# Altium footprint library Mechanical_Connectors_Terminal_Pluggable_Screw_5.08_Board_TH.PcbLib: 6 footprints
Each footprint in its own frame and in the unit in brackets; x right, y up, seen from the top. Pads: shape width x height; smd on the part's side, far side on the other; paste and mask are expansions set on the pad; w line width, h text height; cw(c..) or ccw(c..) is an arc to the next point about the centre after c.
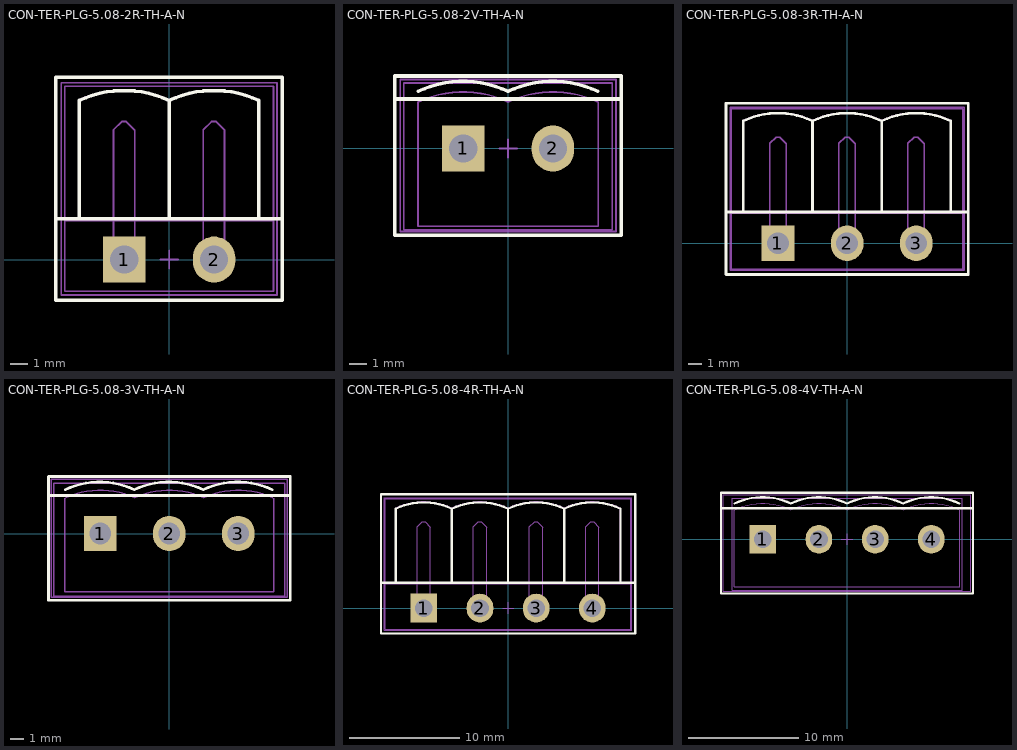
[diagram p0: the footprints below, top view; thin cyan lines are the x and y axes]

## CON-TER-PLG-5.08-2R-TH-A-N [mm]
height 8.3
pads (2):
  rect 2.4x2.6 hole 1.6: 1(-2.54,0)
  oval 2.4x2.6 hole 1.6: 2(2.54,0)
Top Overlay:
  lines w0.2: -6.4,2.3 6.4,2.3 ; -5.085,2.3 -5.085,9 ; -5.056,9.005 cw(c-2.545,3.62) -0.034,9.005 ; -0.005,2.3 -0.005,9 ; 0,2.3 0,9 ; 0.024,9.005 cw(c2.535,3.62) 5.046,9.005 ; 5.08,2.3 5.08,9 ; -6.4,-2.3 -6.4,10.3 6.4,10.3 6.4,-2.3 -6.4,-2.3
Top Package:
  circle w0.1: c-2.54,0 r0.6
  circle w0.1: c2.54,0 r0.6
  lines w0.1: -5.9,2.2 5.9,2.2 ; -5.09,2.23 -5.09,9.03 cw(c-2.55,3.659) -0.01,9.03 ; -3.145,0 -3.145,7.34 -2.685,7.8 -2.425,7.8 -1.945,7.32 -1.945,0 ; -0.01,2.23 -0.01,9.03 ; -0.005,2.23 -0.005,9.03 ; 1.935,0 1.935,7.34 2.395,7.8 2.655,7.8 3.135,7.32 3.135,0 ; 5.07,9.03 ccw(c2.53,3.659) -0.01,9.03 ; 5.075,2.23 5.075,9.03 ; -5.9,-1.8 5.9,-1.8 5.9,9.8 -5.9,9.8 -5.9,-1.8
Top Comment:
  text ".Comment" at -2.835,2.664 h2
Top Designator:
  text ".Designator" at -4.299,2.717 h2.5
Top Border:
  lines w0.1: -0.495,0 0.505,0 ; 0.005,-0.5 0.005,0.5 ; -6.1,-2 -6.1,10 6.1,10 6.1,-2 -6.1,-2 ; -0.503,0 0.513,0 -0.503,0 ; 0.005,-0.508 0.005,0.508 0.005,-0.508
3D body "TB5_08-2R.step": height 8.6, standoff -4.05, extent -6.08,-2 6.08,10

## CON-TER-PLG-5.08-2V-TH-A-N [mm]
height 12.2
pads (2):
  rect 2.4x2.6 hole 1.6: 1(-2.54,0)
  oval 2.4x2.6 hole 1.6: 2(2.54,0)
Top Overlay:
  lines w0.2: -6.4,2.8 6.4,2.8 ; -5.085,3.23 cw(c-2.545,-2.141) -0.005,3.23 cw(c2.535,-2.141) 5.075,3.23 ; -6.4,-4.9 -6.4,4.1 6.4,4.1 6.4,-4.9 -6.4,-4.9
Top Package:
  circle w0.1: c2.54,0 r0.6
  circle w0.1: c-2.54,0 r0.6
  lines w0.1: -5.1,2.6 -5.1,-4.4 5.1,-4.4 5.1,2.6 ; -5.08,2.63 cw(c-2.54,-2.741) 0,2.63 cw(c2.54,-2.741) 5.08,2.63 ; -5.9,-4.6 -5.9,3.7 5.9,3.7 5.9,-4.6 -5.9,-4.6
Top Comment:
  text ".Comment" at -2.835,-3.636 h2
Top Designator:
  text ".Designator" at -4.299,-3.583 h2.5
Top Border:
  lines w0.1: -0.495,0 0.505,0 ; 0.005,-0.5 0.005,0.5 ; -6.1,-4.7 6.1,-4.7 6.1,3.9 -6.1,3.9 -6.1,-4.7 ; -0.503,0 0.513,0 -0.503,0 ; 0.005,-0.508 0.005,0.508 0.005,-0.508
3D body "2EDGVC-5.08-02P.stp": height 12.1, standoff -3.9, extent -6.08,-4.725 6.08,3.875

## CON-TER-PLG-5.08-3R-TH-A-N [mm]
height 8.3
pads (3):
  rect 2.4x2.6 hole 1.6: 1(-5.08,0)
  oval 2.4x2.6 hole 1.6: 2(0,0) 3(5.08,0)
Top Overlay:
  lines w0.2: -8.9,2.3 8.9,2.3 ; -7.625,2.3 -7.625,9 ; -7.596,9.005 cw(c-5.085,3.62) -2.574,9.005 ; -2.54,2.3 -2.54,9 ; -2.511,9.005 cw(c0,3.62) 2.511,9.005 ; 2.54,2.3 2.54,9 ; 2.564,9.005 cw(c5.075,3.62) 7.586,9.005 ; 7.615,2.3 7.615,9 ; -8.9,-2.3 8.9,-2.3 8.9,10.3 -8.9,10.3 -8.9,-2.3
Top Package:
  circle w0.1: c-5.08,0 r0.6
  circle w0.1: c5.08,0 r0.6
  circle w0.1: c0,0 r0.6
  lines w0.1: -8.5,2.2 8.5,2.2 ; -7.63,2.23 -7.63,9.03 cw(c-5.09,3.659) -2.55,9.03 ; -5.685,0 -5.685,7.34 -5.225,7.8 -4.965,7.8 -4.485,7.32 -4.485,0 ; -2.545,2.23 -2.545,9.03 cw(c-0.005,3.659) 2.535,9.03 ; -0.6,0 -0.6,7.34 -0.14,7.8 0.12,7.8 0.6,7.32 0.6,0 ; 2.53,2.23 2.53,9.03 cw(c5.07,3.659) 7.61,9.03 7.61,2.23 ; 4.475,0 4.475,7.34 4.935,7.8 5.195,7.8 5.675,7.32 5.675,0 ; -8.5,-1.9 8.5,-1.9 8.5,9.9 -8.5,9.9 -8.5,-1.9
Top Comment:
  text ".Comment" at -2.835,2.664 h2
Top Designator:
  text ".Designator" at -4.299,2.717 h2.5
Top Border:
  lines w0.1: -0.495,0 0.505,0 ; 0.005,-0.5 0.005,0.5 ; -8.6,-2 8.6,-2 8.6,10 -8.6,10 -8.6,-2 ; -0.503,0 0.513,0 -0.503,0 ; 0.005,-0.508 0.005,0.508 0.005,-0.508
3D body "TB5_08-3R.step": height 8.6, standoff -4.05, extent -8.62,-2 8.62,10

## CON-TER-PLG-5.08-3V-TH-A-N [mm]
height 12.2
pads (3):
  rect 2.4x2.6 hole 1.6: 1(-5.08,0)
  oval 2.4x2.6 hole 1.6: 2(0,0) 3(5.08,0)
Top Overlay:
  lines w0.2: -8.9,2.8 8.9,2.8 ; -7.665,3.23 cw(c-5.125,-2.141) -2.585,3.23 cw(c-0.045,-2.141) 2.495,3.23 cw(c5.035,-2.141) 7.575,3.23 ; -8.9,-4.9 8.9,-4.9 8.9,4.2 -8.9,4.2 -8.9,-4.9
Top Package:
  circle w0.1: c-5.08,0 r0.6
  circle w0.1: c0,0 r0.6
  circle w0.1: c5.08,0 r0.6
  lines w0.1: -7.7,2.6 -7.7,-4.3 7.7,-4.3 7.7,2.6 ; -7.62,2.63 cw(c-5.08,-2.741) -2.54,2.63 cw(c0,-2.741) 2.54,2.63 cw(c5.08,-2.741) 7.62,2.63 ; -8.5,-4.6 8.5,-4.6 8.5,3.7 -8.5,3.7 -8.5,-4.6
Top Comment:
  text ".Comment" at -2.835,-3.636 h2
Top Designator:
  text ".Designator" at -4.299,-3.583 h2.5
Top Border:
  lines w0.1: -0.495,0 0.505,0 ; 0.005,-0.5 0.005,0.5 ; -8.7,-4.7 8.7,-4.7 8.7,4 -8.7,4 -8.7,-4.7 ; -0.503,0 0.513,0 -0.503,0 ; 0.005,-0.508 0.005,0.508 0.005,-0.508
3D body "2EDGVC-5.08-03P.stp": height 12.1, standoff -3.9, extent -8.628,-4.675 8.612,3.925

## CON-TER-PLG-5.08-4R-TH-A-N [mm]
height 8.3
pads (4):
  rect 2.4x2.6 hole 1.6: 1(-7.62,0)
  oval 2.4x2.6 hole 1.6: 2(-2.54,0) 3(2.54,0) 4(7.62,0)
Top Overlay:
  lines w0.2: -11.5,2.3 11.5,2.3 ; -10.165,2.3 -10.165,9 ; -10.136,9.005 cw(c-7.625,3.62) -5.114,9.005 ; -5.085,2.3 -5.085,9 ; -5.08,2.3 -5.08,9 ; -5.056,9.005 cw(c-2.545,3.62) -0.034,9.005 ; -0.005,2.3 -0.005,9 ; 0,2.3 0,9 ; 0.024,9.005 cw(c2.535,3.62) 5.046,9.005 ; 5.075,2.3 5.075,9 ; 5.08,2.3 5.08,9 ; 5.104,9.005 cw(c7.615,3.62) 10.126,9.005 ; 10.16,2.3 10.16,9 ; -11.5,-2.3 11.5,-2.3 11.5,10.3 -11.5,10.3 -11.5,-2.3
Top Package:
  circle w0.1: c-7.62,0 r0.6
  circle w0.1: c-2.54,0 r0.6
  circle w0.1: c2.54,0 r0.6
  circle w0.1: c7.62,0 r0.6
  lines w0.1: -11.1,2.2 11.1,2.2 ; -10.17,2.23 -10.17,9.03 cw(c-7.63,3.659) -5.09,9.03 ; -8.225,0 -8.225,7.34 -7.765,7.8 -7.505,7.8 -7.025,7.32 -7.025,0 ; -5.09,2.23 -5.09,9.03 ; -5.085,2.23 -5.085,9.03 ; -3.145,0 -3.145,7.34 -2.685,7.8 -2.425,7.8 -1.945,7.32 -1.945,0 ; -0.01,2.23 -0.01,9.03 ; -0.005,2.23 -0.005,9.03 ; 1.935,0 1.935,7.34 2.395,7.8 2.655,7.8 3.135,7.32 3.135,0 ; 5.07,2.23 5.07,9.03 ; 5.075,2.23 5.075,9.03 ; 7.015,0 7.015,7.34 7.475,7.8 7.735,7.8 8.215,7.32 8.215,0 ; 10.15,9.03 ccw(c7.61,3.659) 5.07,9.03 ; 10.155,2.23 10.155,9.03 ; -5.09,9.03 cw(c-2.55,3.659) -0.01,9.03 ; -0.01,9.03 cw(c2.53,3.659) 5.07,9.03 ; -11.1,-1.9 11.1,-1.9 11.1,9.9 -11.1,9.9 -11.1,-1.9
Top Comment:
  text ".Comment" at -2.835,2.664 h2
Top Designator:
  text ".Designator" at -4.299,2.717 h2.5
Top Border:
  lines w0.1: -0.495,0 0.505,0 ; 0.005,-0.5 0.005,0.5 ; -11.2,-2 -11.2,10 11.2,10 11.2,-2 -11.2,-2 ; -0.503,0 0.513,0 -0.503,0 ; 0.005,-0.508 0.005,0.508 0.005,-0.508
3D body "TB5_08-4R.step": height 8.6, standoff -4.05, extent -11.16,-2 11.16,10

## CON-TER-PLG-5.08-4V-TH-A-N [mm]
height 12.2
pads (4):
  rect 2.4x2.6 hole 1.6: 1(-7.62,0)
  oval 2.4x2.6 hole 1.6: 2(-2.54,0) 3(2.54,0) 4(7.62,0)
Top Overlay:
  lines w0.2: -11.4,2.8 11.4,2.8 ; -10.165,3.23 cw(c-7.625,-2.141) -5.085,3.23 cw(c-2.545,-2.141) -0.005,3.23 cw(c2.535,-2.141) 5.075,3.23 cw(c7.615,-2.141) 10.155,3.23 ; -11.4,-4.9 -11.4,4.2 11.4,4.2 11.4,-4.9 -11.4,-4.9
Top Package:
  circle w0.1: c7.62,0 r0.5
  circle w0.1: c2.54,0 r0.6
  circle w0.1: c-7.62,0 r0.6
  circle w0.1: c-2.54,0 r0.6
  lines w0.1: -10.2,2.6 -10.2,-4.3 10.2,-4.3 10.2,2.6 ; -10.16,2.63 cw(c-7.62,-2.741) -5.08,2.63 cw(c-2.54,-2.741) 0,2.63 cw(c2.54,-2.741) 5.08,2.63 cw(c7.62,-2.741) 10.16,2.63 ; -10.4,-4.6 -10.4,3.7 10.4,3.7 10.4,-4.6 -10.4,-4.6
Top Comment:
  text ".Comment" at -2.835,-3.636 h2
Top Designator:
  text ".Designator" at -4.299,-3.583 h2.5
Top Border:
  lines w0.1: -0.495,0 0.505,0 ; 0.005,-0.5 0.005,0.5 ; -11.2,-4.7 11.2,-4.7 11.2,4 -11.2,4 -11.2,-4.7 ; -0.503,0 0.513,0 -0.503,0 ; 0.005,-0.508 0.005,0.508 0.005,-0.508
3D body "2EDGVC-5.08-04P.stp": height 12.1, standoff -3.9, extent -11.158,-4.675 11.162,3.925